# Altium footprint library Shot-Clock-Remote.PcbLib: 8 footprints
Each footprint in its own frame and in the unit in brackets; x right, y up, seen from the top. Pads: shape width x height; smd on the part's side, far side on the other; paste and mask are expansions set on the pad; w line width, h text height; cw(c..) or ccw(c..) is an arc to the next point about the centre after c.
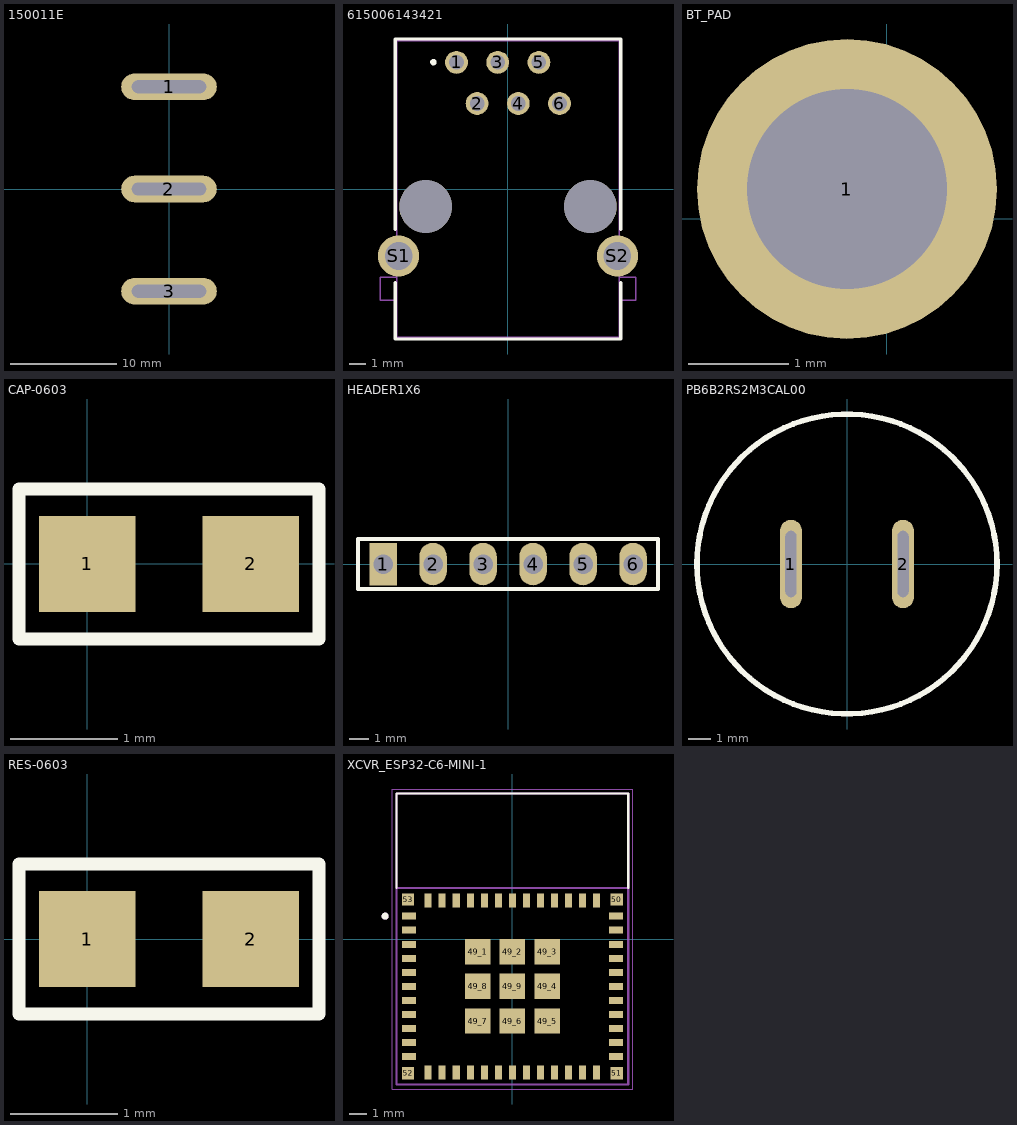
[diagram p0: the footprints below, top view; thin cyan lines are the x and y axes]

## 150011E [mm]
pads (3):
  oval 9x2.5 hole 1.2 slot 7 at 0 deg: 1(0,9.62) 2(0,0) 3(0,-9.62)
3D body "150011E.stp": height 22.3, standoff -9.95, extent -7.555,-19.884 7.555,19.884

## 615006143421 [mm]
height 7
pads (10):
  round 1.408 hole 0.9: 1(-3.175,7.81) 2(-1.905,5.27) 3(-0.635,7.81) 4(0.635,5.27) 5(1.905,7.81) 6(3.175,5.27)
  round 2.55 hole 1.7: S1(-6.75,-4.13) S2(6.75,-4.13)
  round 3.25 hole 3.25 unplated: ""(-5.08,-1.08) ""(5.08,-1.08)
Top Overlay:
  circle w0.2: c-4.6,7.82 r0.1
  lines w0.2: -6.955,-5.78 -6.955,-9.25 6.955,-9.25 6.955,-5.78 ; -6.955,-2.48 -6.955,9.25 6.955,9.25 6.955,-2.48
Mechanical 13:
  lines w0.1: -6.9,-6.85 -7.875,-6.85 -7.875,-5.45 -6.9,-5.45 ; 6.9,-6.85 7.875,-6.85 7.875,-5.45 6.9,-5.45 ; -6.855,-9.15 6.855,-9.15 6.855,9.15 -6.855,9.15 -6.855,-9.15
3D body "615006143421.stp": height 13.55, standoff -3.65, extent -7.875,-9.121 7.875,9.179

## BT_PAD [mm]
pads (1):
  round 3 hole 2: 1(-0.4,0.3)

## CAP-0603 [mm]
pads (2):
  rect 0.9x0.9 smd mask+0.07: 1(0,0) 2(1.524,0)
Top Overlay:
  lines w0.12: -0.638,-0.7 2.162,-0.7 2.162,0.7 -0.638,0.7 -0.638,-0.7
3D body "CAPC1608(0603).STEP": height 0.6, standoff 0, extent -0.038,-0.4 1.562,0.4

## HEADER1X6 [mil]
pads (6):
  rect 55x85 hole 39: 1(-250,0)
  oval 55x85 hole 39: 2(-150,0) 3(-50,0) 4(50,0) 5(150,0) 6(250,0)
Top Overlay:
  lines w7.87: -300,-50 300,-50 300,50 -300,50 -300,-50

## PB6B2RS2M3CAL00 [mm]
pads (2):
  oval 1x4 hole 0.5 slot 3 at 90 deg: 1(-2.54,0) 2(2.54,0)
Top Overlay:
  circle w0.254: c0,0 r6.8
3D body "c-1-2329360-1-a-3d.stp": height 17.83, standoff -7.36, extent -8.75,-8.75 8.75,8.75

## RES-0603 [mm]
pads (2):
  rect 0.9x0.9 smd mask+0.07: 1(0,0) 2(1.524,0)
Top Overlay:
  lines w0.12: -0.638,-0.7 -0.638,0.7 2.162,0.7 2.162,-0.7 -0.638,-0.7
3D body "RESC1608(0603).STEP": height 0.38, standoff 0, extent -0.038,-0.4 1.562,0.4

## XCVR_ESP32-C6-MINI-1 [mm]
pads (61):
  rect 0.8x0.4 smd: 1(-5.9,1.3) 2(-5.9,0.5) 3(-5.9,-0.3) 4(-5.9,-1.1) 5(-5.9,-1.9) 6(-5.9,-2.7) 7(-5.9,-3.5) 8(-5.9,-4.3) 9(-5.9,-5.1) 10(-5.9,-5.9) 11(-5.9,-6.7) 25(5.9,-6.7) 26(5.9,-5.9) 27(5.9,-5.1) 28(5.9,-4.3) 29(5.9,-3.5) 30(5.9,-2.7) 31(5.9,-1.9) 32(5.9,-1.1) 33(5.9,-0.3) 34(5.9,0.5) 35(5.9,1.3)
  rect 0.4x0.8 smd: 12(-4.8,-7.6) 13(-4,-7.6) 14(-3.2,-7.6) 15(-2.4,-7.6) 16(-1.6,-7.6) 17(-0.8,-7.6) 18(0,-7.6) 19(0.8,-7.6) 20(1.6,-7.6) 21(2.4,-7.6) 22(3.2,-7.6) 23(4,-7.6) 24(4.8,-7.6) 36(4.8,2.2) 37(4,2.2) 38(3.2,2.2) 39(2.4,2.2) 40(1.6,2.2) 41(0.8,2.2) 42(0,2.2) 43(-0.8,2.2) 44(-1.6,2.2) 45(-2.4,2.2) 46(-3.2,2.2) 47(-4,2.2) 48(-4.8,2.2)
  rect 1.45x1.45 smd: 49_1(-1.974,-0.725) 49_2(0,-0.725) 49_3(1.975,-0.725) 49_4(1.975,-2.7) 49_5(1.975,-4.675) 49_6(0,-4.675) 49_7(-1.975,-4.675) 49_8(-1.974,-2.7) 49_9(0,-2.7)
  rect 0.7x0.7 smd: 50(5.95,2.25) 51(5.95,-7.65) 52(-5.95,-7.65) 53(-5.95,2.25)
Top Overlay:
  circle w0.2: c-7.25,1.3 r0.1
  lines w0.127: -6.6,2.92 -6.6,8.3 6.6,8.3 6.6,2.92
Mechanical 13:
  circle w0.2: c-7.25,1.3 r0.1
  lines w0.127: -6.6,2.9 -6.6,-8.3 6.6,-8.3 6.6,2.9 ; -6.6,2.9 -6.6,8.3 6.6,8.3 6.6,2.9 ; -6.6,2.9 6.6,2.9
Mechanical 15:
  lines w0.05: -6.85,-8.55 -6.85,8.55 6.85,8.55 6.85,-8.55 -6.85,-8.55
3D body "step_temp.STEP": height 2.55, standoff 0, extent -6.6,-8.3 6.6,8.3